# Altium integrated library TSM-103-XX-XXX-SV.IntLib: 1 symbol
Pins are listed as number, name and electrical type; pins without a type are passive.

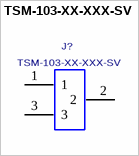
[diagram p0: symbol TSM-103-XX-XXX-SV]

## TSM-103-XX-XXX-SV
designator J?
SING ROW, 0.100" SMT ASSEMBLY, 3 PINS.; MANUFACTURER: SAMTEC; CREATED: October 22, 2015 - Wendy Xin; PCB DECAL: TSM-103-XX-XXX-SV
footprint TSM-103-XX-XXX-SV
pins: 1, 2, 3